# Altium footprint library QFN-24-(4x4).PcbLib: 1 footprints
Each footprint in its own frame and in the unit in brackets; x right, y up, seen from the top. Pads: shape width x height; smd on the part's side, far side on the other; paste and mask are expansions set on the pad; w line width, h text height; cw(c..) or ccw(c..) is an arc to the next point about the centre after c.
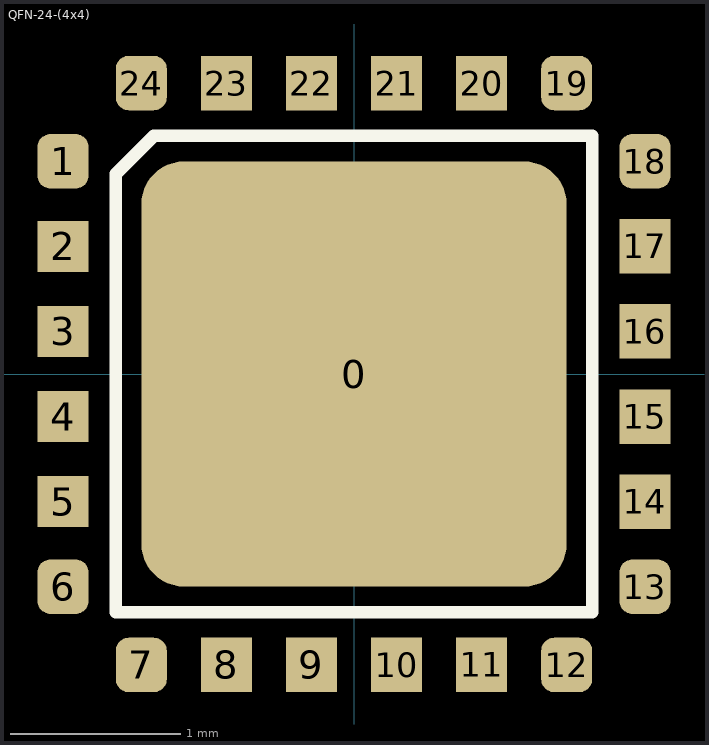
[diagram p0: the footprint, top view; thin cyan lines are the x and y axes]

## QFN-24-(4x4) [mm]
pads (25):
  rrect20% 2.5x2.5 smd mask+0.05: 0(0,0)
  rrect50% 0.3x0.32 smd mask+0.05: 1(-1.71,1.25) 6(-1.71,-1.25) 7(-1.25,-1.71) 12(1.25,-1.71) 13(1.71,-1.25) 18(1.71,1.25) 19(1.25,1.71) 24(-1.25,1.71)
  rect 0.3x0.3 smd mask+0.05: 2(-1.71,0.75) 3(-1.71,0.25) 4(-1.71,-0.25) 5(-1.71,-0.75)
  rect 0.3x0.32 smd mask+0.05: 8(-0.75,-1.71) 9(-0.25,-1.71) 10(0.25,-1.71) 11(0.75,-1.71) 14(1.71,-0.75) 15(1.71,-0.25) 16(1.71,0.25) 17(1.71,0.75) 20(0.75,1.71) 21(0.25,1.71) 22(-0.25,1.71) 23(-0.75,1.71)
Top Overlay:
  lines w0.075: -1.4,-1.4 1.4,-1.4 1.4,1.4 -1.175,1.4 -1.4,1.175 -1.4,-1.4
3D body: height 1, standoff 0, extent -2,-2 2,2